# EAGLE library part MPU-9250 (library cortex-mpu)
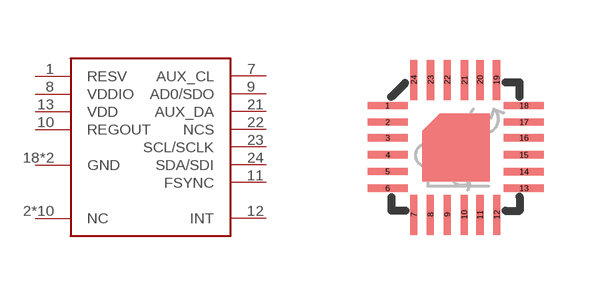
[diagram p4: symbol with the pads of QFN-24-3MM; footprint QFN-24-3MM]

Designator prefix -

## MPU-9250  [QFN-24-3MM]
1  RESV
2  NC
3  NC
4  NC
5  NC
6  NC
7  AUX_CL
8  VDDIO
9  AD0/SDO
10  REGOUT
11  FSYNC
12  INT
13  VDD
14  NC
15  NC
16  NC
17  NC
18  GND
19  NC
20  GND
21  AUX_DA
22  NCS
23  SCL/SCLK
24  SDA/SDI

## Footprint QFN-24-3MM (pad centres in mm)
smd 1 x 0.182: 1 -1.719,1.027; 2 -1.719,0.614; 3 -1.719,0.22; 4 -1.719,-0.207; 5 -1.719,-0.62; 6 -1.719,-1.041; 13 1.692,-1.041; 14 1.692,-0.627; 15 1.692,-0.207; 16 1.692,0.22; 17 1.692,0.614; 18 1.692,1.027
smd 0.182 x 1: 7 -1.061,-1.705; 8 -0.647,-1.705; 9 -0.227,-1.705; 10 0.2,-1.705; 11 0.593,-1.705; 12 1.014,-1.705; 19 1.007,1.665; 20 0.593,1.671; 21 0.207,1.665; 22 -0.227,1.671; 23 -0.641,1.671; 24 -1.061,1.671